# Altium footprint library TP2_PcbLib.PcbLib: 13 footprints
Each footprint in its own frame and in the unit in brackets; x right, y up, seen from the top. Pads: shape width x height; smd on the part's side, far side on the other; paste and mask are expansions set on the pad; w line width, h text height; cw(c..) or ccw(c..) is an arc to the next point about the centre after c.
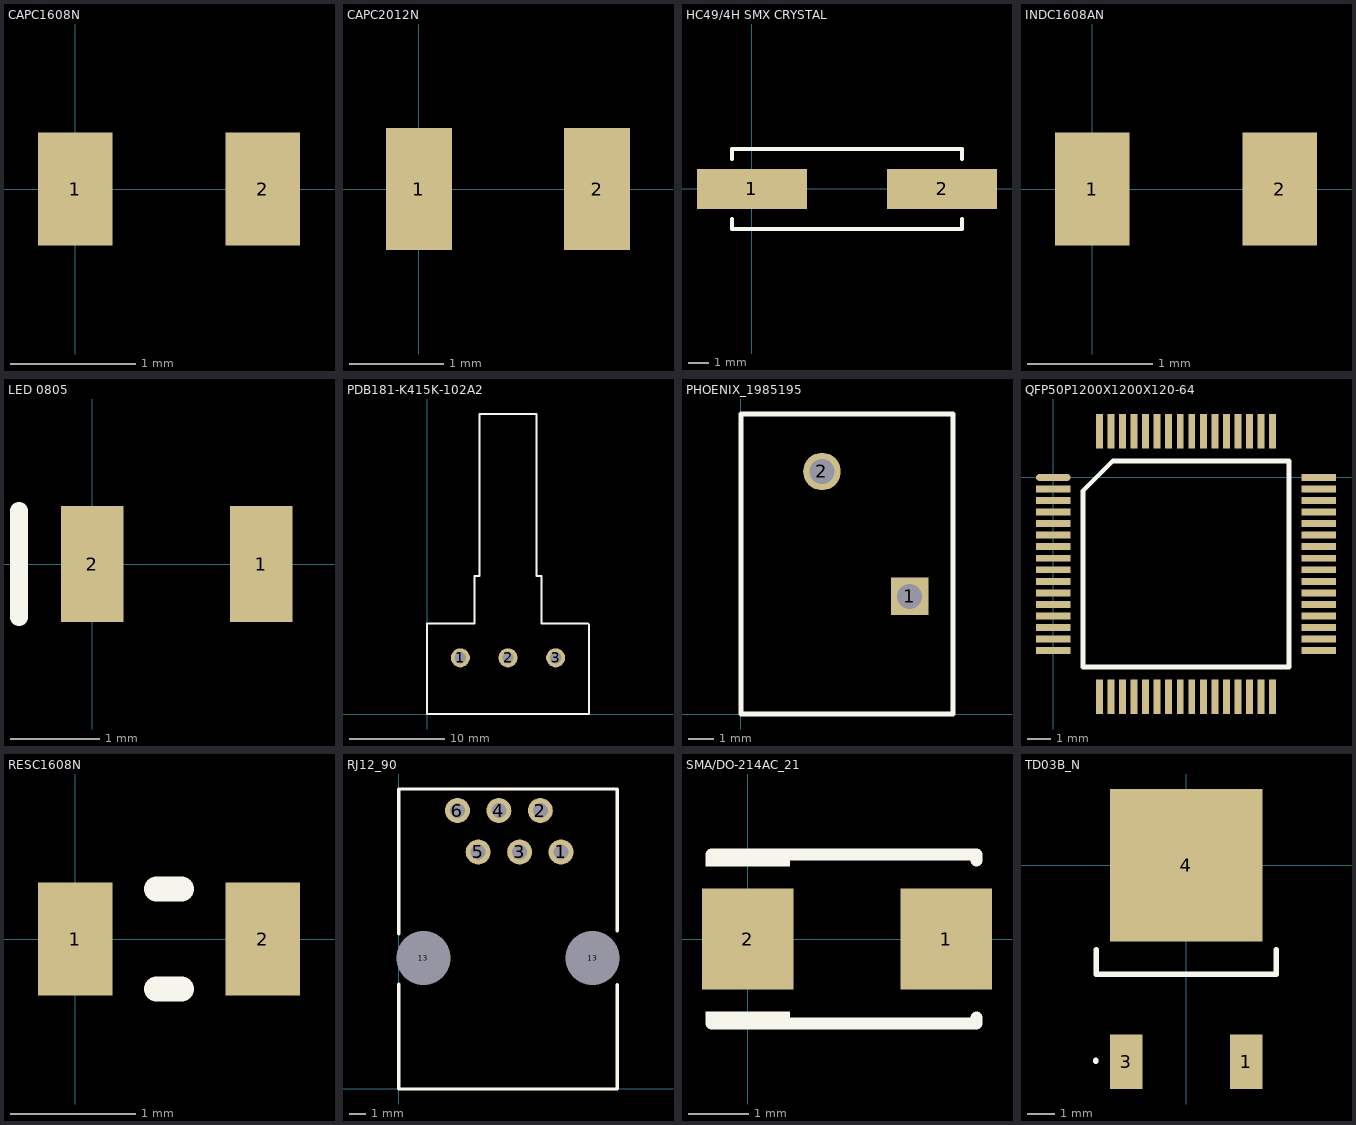
[diagram p0: the footprints below, top view; thin cyan lines are the x and y axes]

## CAPC1608N [mm] "0603"
pads (2):
  rect 0.6x0.9 smd mask+0.2: 1(0,0) 2(1.5,0)

## CAPC2012N [mm] "0805"
pads (2):
  rect 0.7x1.3 smd mask+0.2: 1(0,0) 2(1.9,0)

## HC49/4H SMX CRYSTAL [mm] "HC49/4HSMX"
pads (2):
  rect 5.5x2 smd mask+0.2: 1(0,0) 2(9.5,0)
Top Overlay:
  lines w0.2: -1,-1.5 -1,-2 10.5,-2 10.5,-1.5 ; -1,1.5 -1,2 10.5,2 10.5,1.5

## INDC1608AN [mm] "0603"
pads (2):
  rect 0.6x0.9 smd mask+0.2: 1(0,0) 2(1.5,0)

## LED 0805 [mm] "0805"
pads (2):
  rect 0.7x1.3 smd mask+0.2: 1(1.9,0) 2(0,0)
Top Overlay:
  lines w0.2: -0.825,-0.6 -0.825,0.6

## PCBComponent_1 [mm]

## PDB181-K415K-102A2 [mm]
pads (3):
  round 2 hole 1.2 mask+0.2: 1(3.5,5.9) 2(8.5,5.9) 3(13.5,5.9)
Top Overlay:
  lines w0.2: 0,0 17,0 17,9.4 16.9,9.5 12,9.5 12,14.5 11.5,14.5 11.5,31.5 5.5,31.5 5.5,14.5 5,14.5 5,9.5 0,9.5 0,0

## PHOENIX_1985195 [mm]
pads (2):
  rect 1.5x1.5 hole 1 mask+0.2: 1(6.75,4.7)
  round 1.5 hole 1 mask+0.2: 2(3.25,9.7)
Top Overlay:
  lines w0.2: 0,0 0,12 8.5,12 8.5,0 0,0

## QFP50P1200X1200X120-64 [mm]
pads (64):
  oval 1.5x0.3 smd mask+0.2: 1(0,0)
  rect 1.5x0.3 smd mask+0.2: 2(0,-0.5) 3(0,-1) 4(0,-1.5) 5(0,-2) 6(0,-2.5) 7(0,-3) 8(0,-3.5) 9(0,-4) 10(0,-4.5) 11(0,-5) 12(0,-5.5) 13(0,-6) 14(0,-6.5) 15(0,-7) 16(0,-7.5) 33(11.5,-7.5) 34(11.5,-7) 35(11.5,-6.5) 36(11.5,-6) 37(11.5,-5.5) 38(11.5,-5) 39(11.5,-4.5) 40(11.5,-4) 41(11.5,-3.5) 42(11.5,-3) 43(11.5,-2.5) 44(11.5,-2) 45(11.5,-1.5) 46(11.5,-1) 47(11.5,-0.5) 48(11.5,0)
  rect 0.3x1.5 smd mask+0.2: 17(2,-9.5) 18(2.5,-9.5) 19(3,-9.5) 20(3.5,-9.5) 21(4,-9.5) 22(4.5,-9.5) 23(5,-9.5) 24(5.5,-9.5) 25(6,-9.5) 26(6.5,-9.5) 27(7,-9.5) 28(7.5,-9.5) 29(8,-9.5) 30(8.5,-9.5) 31(9,-9.5) 32(9.5,-9.5) 49(9.5,2) 50(9,2) 51(8.5,2) 52(8,2) 53(7.5,2) 54(7,2) 55(6.5,2) 56(6,2) 57(5.5,2) 58(5,2) 59(4.5,2) 60(4,2) 61(3.5,2) 62(3,2) 63(2.5,2) 64(2,2)
Top Overlay:
  lines w0.2: 1.285,-8.215 1.285,-0.57 2.57,0.715 10.215,0.715 10.215,-8.215 1.285,-8.215

## RESC1608N [mm] "0603"
pads (2):
  rect 0.6x0.9 smd mask+0.2: 1(0,0) 2(1.5,0)
Top Overlay:
  lines w0.2: 0.65,-0.4 0.85,-0.4 ; 0.65,0.4 0.85,0.4

## RJ12_90 [mm]
pads (8):
  round 1.5 hole 0.9 mask+0.2: 1(9.8,14.3) 2(8.55,16.8) 3(7.3,14.3) 4(6.05,16.8) 5(4.8,14.3) 6(3.55,16.8)
  oval 0.75x0.7 hole 3.25 unplated mask+0.2: 13(1.5,7.9) 13(11.7,7.9)
Top Overlay:
  lines w0.2: 0,6.325 0,0 13.2,0 13.2,6.3 ; 0,9.35 0,18.1 13.2,18.1 13.2,9.55

## SMA/DO-214AC_21 [mm]
pads (2):
  rect 1.52x1.68 smd mask+0.2: 1(3.3,0) 2(0,0)
Top Overlay:
  rectangle: -0.7,-1.4 0.7,-1.2
  rectangle: -0.7,1.2 0.7,1.4
  lines w0.2: -0.6,-1.4 3.8,-1.4 3.8,-1.3 ; -0.6,1.4 3.8,1.4 3.8,1.3

## TD03B_N [mm]
pads (3):
  rect 1.2x2 smd mask+0.2: 1(2.2,-7.2) 3(-2.2,-7.2)
  rect 5.6x5.6 smd mask+0.2: 4(0,0)
Top Overlay:
  lines w0.2: -3.325,-7.175 -3.325,-7.15 ; -3.3,-3.1 -3.3,-4 3.3,-4 3.3,-3.1